# Altium schematic symbol library драйверы.SchLib: 36 symbols
Pins are listed as number, name and electrical type; pins without a type are passive.

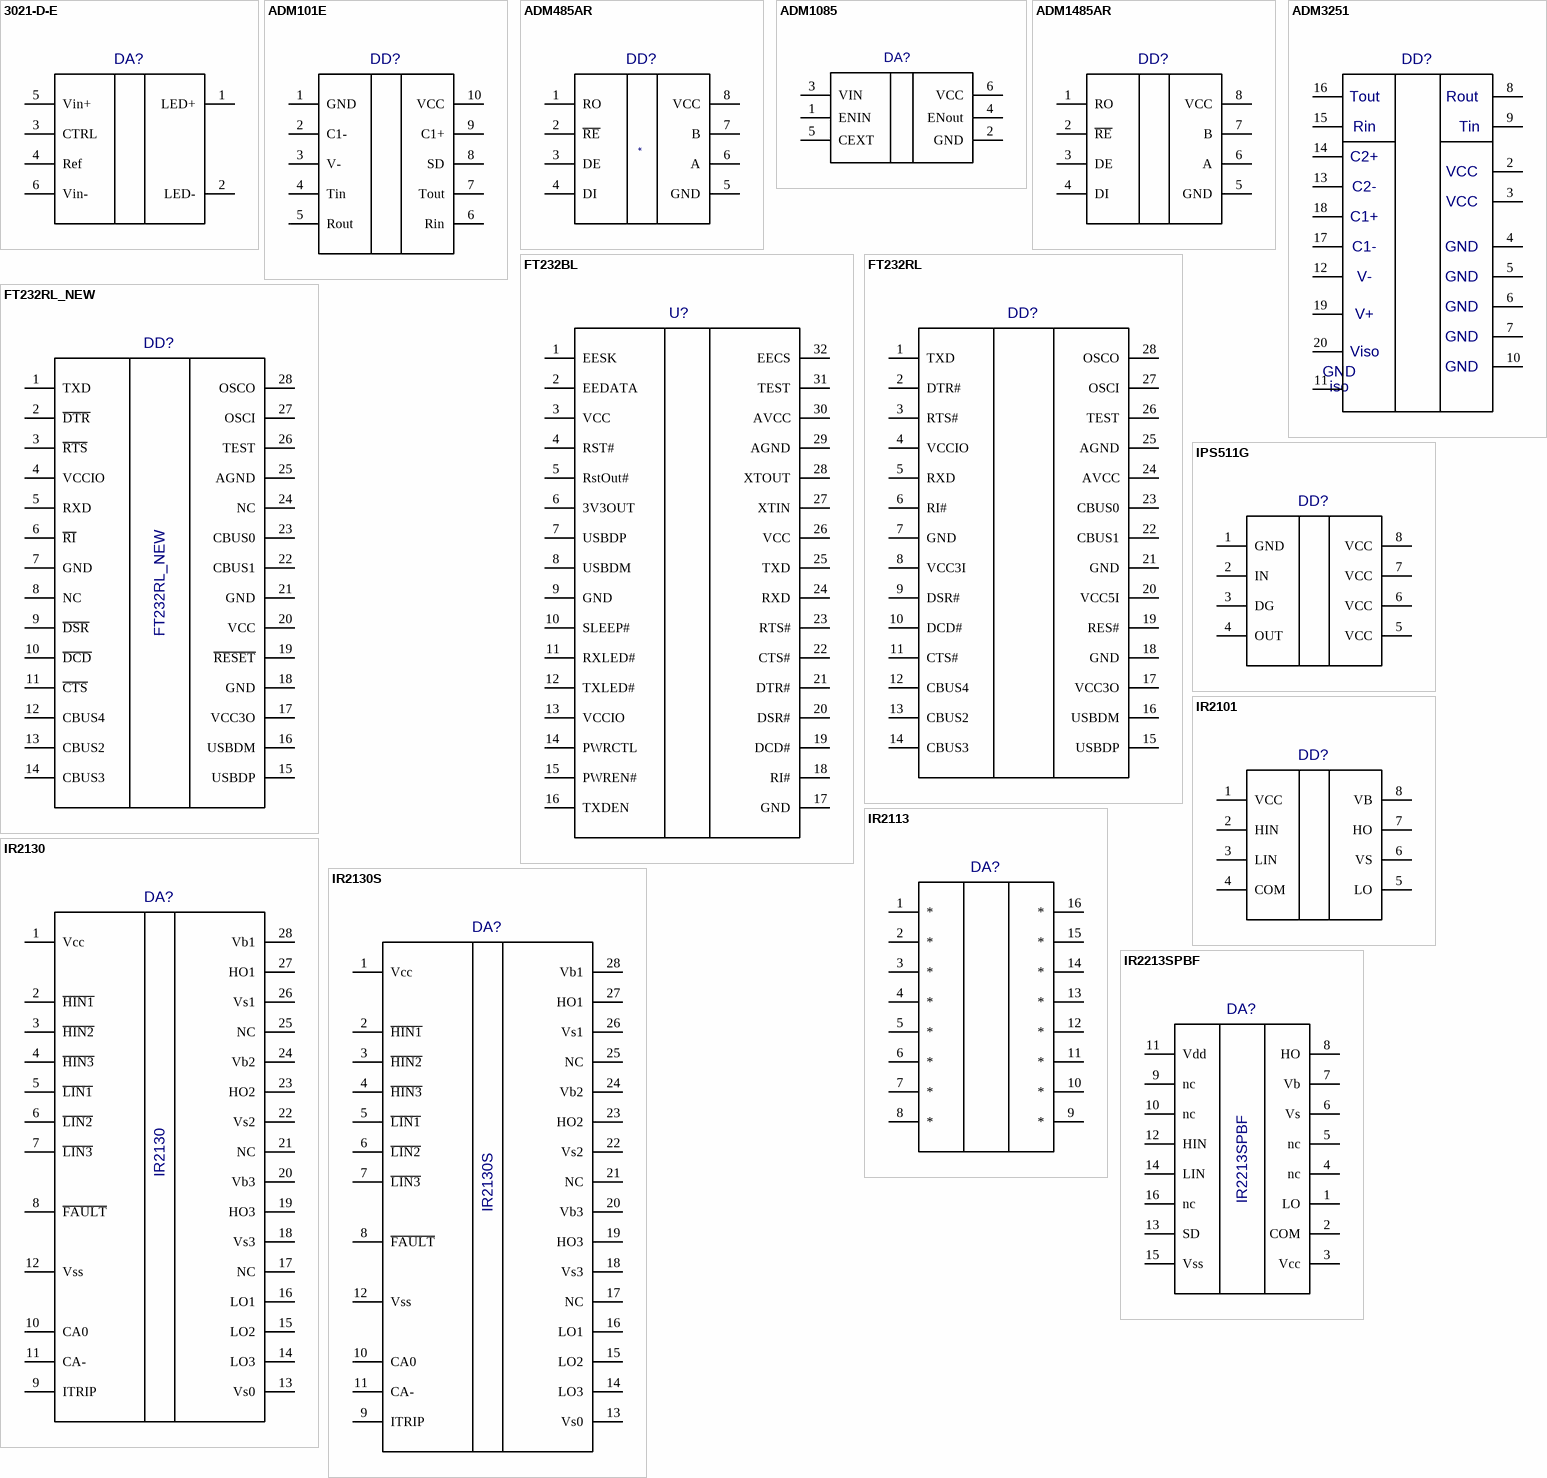
[diagram p0: symbols 3021-D-E to IR2213SPBF]

## 3021-D-E
designator DA?  (value not drawn)
Value: *
footprint 3021-D-E
pins: 1 LED+, 2 LED-, 3 CTRL, 4 Ref, 5 Vin+, 6 Vin-

## ADM101E
designator DD?  (value not drawn)
Value: *
footprint MSOP-10
pins: 1 GND, 2 C1-, 3 V-, 4 Tin, 5 Rout, 6 Rin, 7 Tout, 8 SD, 9 C1+, 10 VCC

## ADM485AR
designator DD?  (value not drawn)
Value: *
footprint SO8
pins: 1 RO, 2 ~{RE}, 3 DE, 4 DI, 5 GND, 6 A, 7 B, 8 VCC

## ADM1085
designator DA?  (value not drawn)
Value: *
footprint SOT363
pins: 1 ENIN, 2 GND, 3 VIN, 4 ENout, 5 CEXT, 6 VCC

## ADM1485AR
designator DD?  (value not drawn)
Value: *
footprint SO8
pins: 1 RO, 2 ~{RE}, 3 DE, 4 DI, 5 GND, 6 A, 7 B, 8 VCC

## ADM3251
designator DD?  (value not drawn)
Value: *
footprint SOL20
pins: 1 hidden, 2 VCC, 3 VCC, 4 GND, 5 GND, 6 GND, 7 GND, 8 Rout, 9 Tin, 10 GND, 11 GNDiso, 12 V-, 13 C2-, 14 C2+, 15 Rin, 16 Tout, 17 C1-, 18 C1+, 19 V+, 20 Viso
text: iso

## FT232BL
designator U?  (value not drawn)
Value: *
footprint LQFP32
pins: 1 EESK, 2 EEDATA, 3 VCC, 4 RST#, 5 RstOut#, 6 3V3OUT, 7 USBDP, 8 USBDM, 9 GND, 10 SLEEP#, 11 RXLED#, 12 TXLED#, 13 VCCIO, 14 PWRCTL, 15 PWREN#, 16 TXDEN, 17 GND, 18 RI#, 19 DCD#, 20 DSR#, 21 DTR#, 22 CTS#, 23 RTS#, 24 RXD, 25 TXD, 26 VCC, 27 XTIN, 28 XTOUT, 29 AGND, 30 AVCC, 31 TEST, 32 EECS

## FT232RL
designator DD?  (value not drawn)
Value: *
footprint SSOP28
pins: 1 TXD, 2 DTR#, 3 RTS#, 4 VCCIO, 5 RXD, 6 RI#, 7 GND, 8 VCC3I, 9 DSR#, 10 DCD#, 11 CTS#, 12 CBUS4, 13 CBUS2, 14 CBUS3, 15 USBDP, 16 USBDM, 17 VCC3O, 18 GND, 19 RES#, 20 VCC5I, 21 GND, 22 CBUS1, 23 CBUS0, 24 AVCC, 25 AGND, 26 TEST, 27 OSCI, 28 OSCO

## FT232RL_NEW
designator DD?
Value: {Value}
footprint SSOP28
pins: 1 TXD, 2 ~{DTR}, 3 ~{RTS}, 4 VCCIO, 5 RXD, 6 ~{RI}, 7 GND, 8 NC, 9 ~{DSR}, 10 ~{DCD}, 11 ~{CTS}, 12 CBUS4, 13 CBUS2, 14 CBUS3, 15 USBDP, 16 USBDM, 17 VCC3O, 18 GND, 19 ~{RESET}, 20 VCC, 21 GND, 22 CBUS1, 23 CBUS0, 24 NC, 25 AGND, 26 TEST, 27 OSCI, 28 OSCO

## IPS511G
designator DD?  (value not drawn)
Value: *
footprint SO8
pins: 1 GND, 2 IN, 3 DG, 4 OUT, 5 VCC, 6 VCC, 7 VCC, 8 VCC

## IR2101
designator DD?  (value not drawn)
Value: *
footprint DIP8
pins: 1 VCC, 2 HIN, 3 LIN, 4 COM, 5 LO, 6 VS, 7 HO, 8 VB

## IR2113
designator DA?  (value not drawn)
Value: *
footprint SOL16
pins: 1 *, 2 *, 3 *, 4 *, 5 *, 6 *, 7 *, 8 *, 9 *, 10 *, 11 *, 12 *, 13 *, 14 *, 15 *, 16 *

## IR2130
designator DA?
Value: {Value}
footprint DIP28
pins: 1 Vcc, 2 ~{HIN1}, 3 ~{HIN2}, 4 ~{HIN3}, 5 ~{LIN1}, 6 ~{LIN2}, 7 ~{LIN3}, 8 ~{FAULT}, 9 ITRIP, 10 CA0, 11 CA-, 12 Vss, 13 Vs0, 14 LO3, 15 LO2, 16 LO1, 17 NC, 18 Vs3, 19 HO3, 20 Vb3, 21 NC, 22 Vs2, 23 HO2, 24 Vb2, 25 NC, 26 Vs1, 27 HO1, 28 Vb1

## IR2130S
designator DA?
Value: *
footprint SOL28
pins: 1 Vcc, 2 ~{HIN1}, 3 ~{HIN2}, 4 ~{HIN3}, 5 ~{LIN1}, 6 ~{LIN2}, 7 ~{LIN3}, 8 ~{FAULT}, 9 ITRIP, 10 CA0, 11 CA-, 12 Vss, 13 Vs0, 14 LO3, 15 LO2, 16 LO1, 17 NC, 18 Vs3, 19 HO3, 20 Vb3, 21 NC, 22 Vs2, 23 HO2, 24 Vb2, 25 NC, 26 Vs1, 27 HO1, 28 Vb1

## IR2213SPBF
designator DA?
Value: *
footprint SOL16
pins: 1 LO, 2 COM, 3 Vcc, 4 nc, 5 nc, 6 Vs, 7 Vb, 8 HO, 9 nc, 10 nc, 11 Vdd, 12 HIN, 13 SD, 14 LIN, 15 Vss, 16 nc

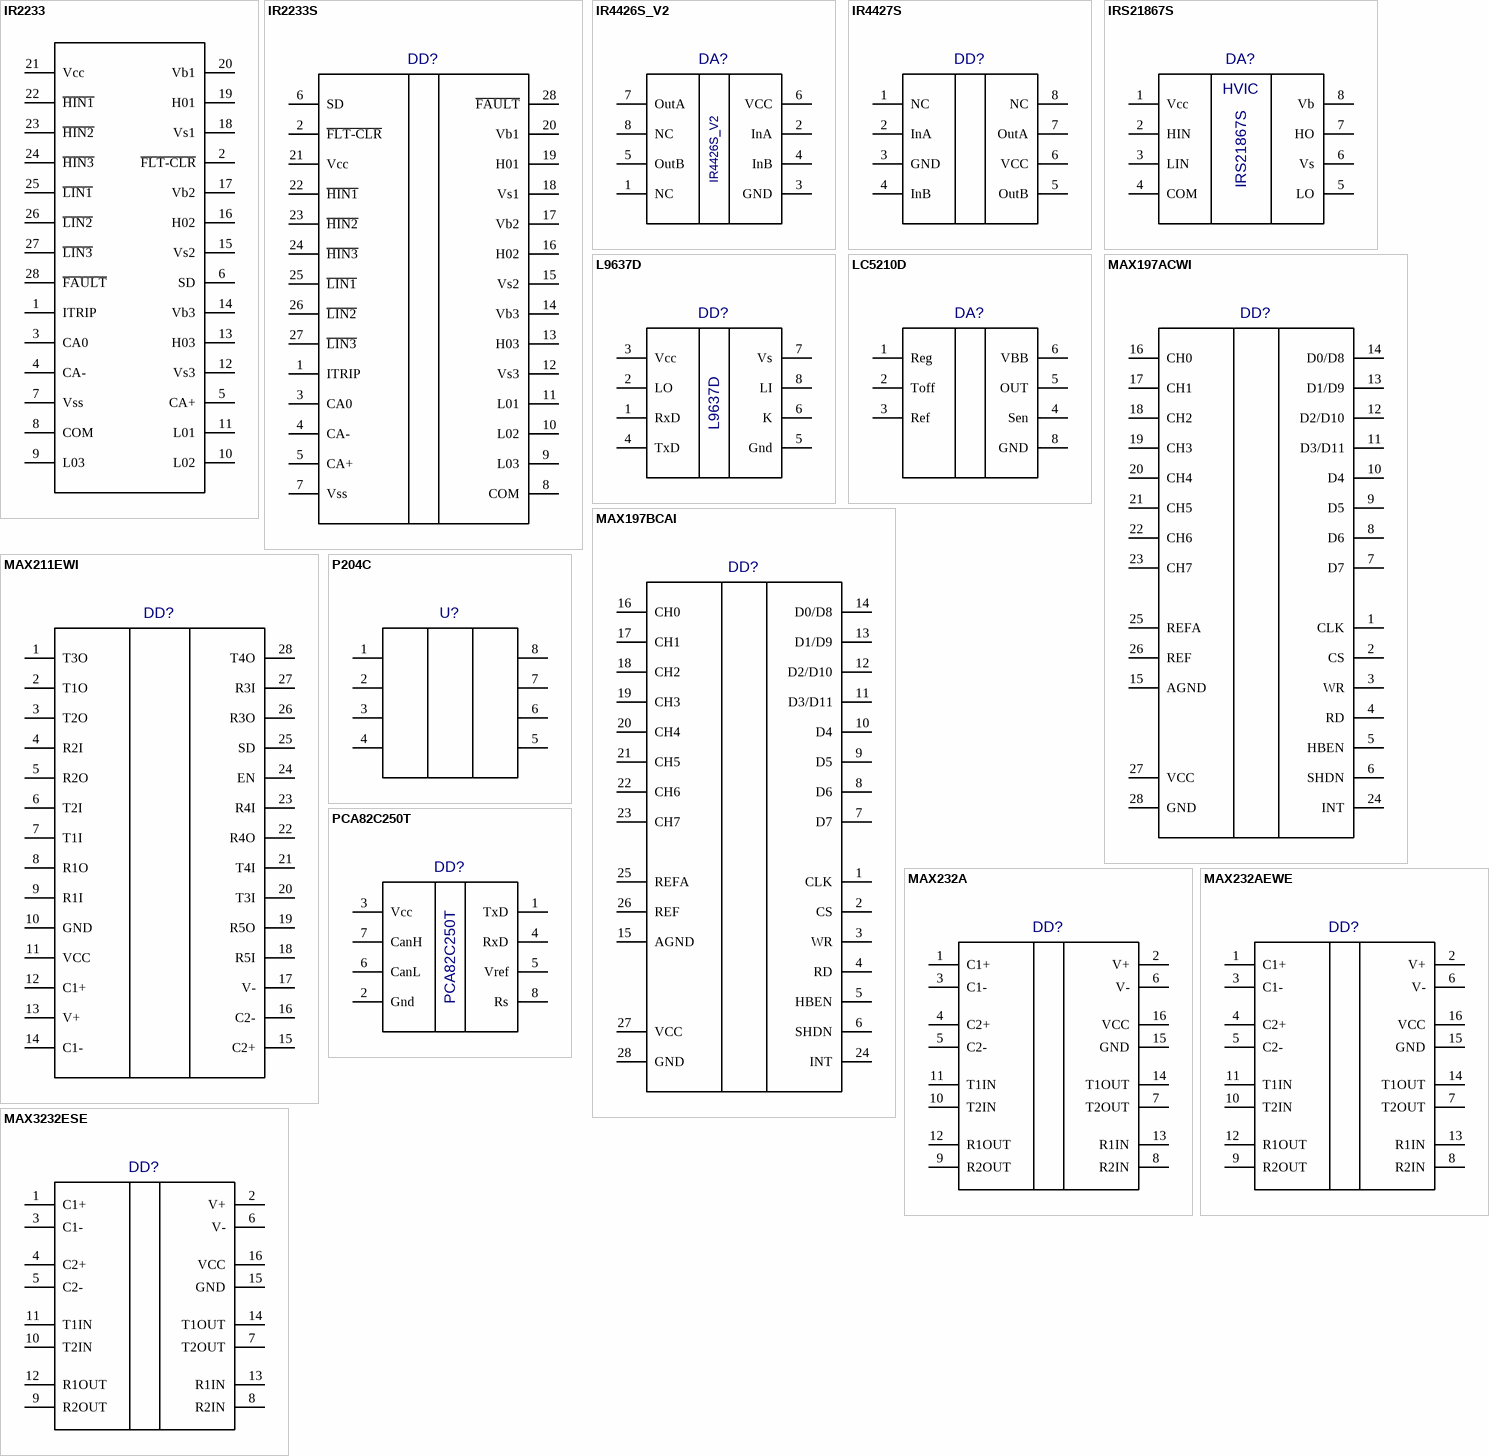
[diagram p1: symbols IR2233 to PCA82C250T]

## IR2233
designator DD?  (value not drawn)
Value: *
footprint SOL28
pins: 1 ITRIP, 2 ~{FLT-CLR}, 3 CA0, 4 CA-, 5 CA+, 6 SD, 7 Vss, 8 COM, 9 L03, 10 L02, 11 L01, 12 Vs3, 13 H03, 14 Vb3, 15 Vs2, 16 H02, 17 Vb2, 18 Vs1, 19 H01, 20 Vb1, 21 Vcc, 22 ~{HIN1}, 23 ~{HIN2}, 24 ~{HIN3}, 25 ~{LIN1}, 26 ~{LIN2}, 27 ~{LIN3}, 28 ~{FAULT}

## IR2233S
designator DD?  (value not drawn)
Value: *
footprint SOL28
pins: 1 ITRIP, 2 ~{FLT-CLR}, 3 CA0, 4 CA-, 5 CA+, 6 SD, 7 Vss, 8 COM, 9 L03, 10 L02, 11 L01, 12 Vs3, 13 H03, 14 Vb3, 15 Vs2, 16 H02, 17 Vb2, 18 Vs1, 19 H01, 20 Vb1, 21 Vcc, 22 ~{HIN1}, 23 ~{HIN2}, 24 ~{HIN3}, 25 ~{LIN1}, 26 ~{LIN2}, 27 ~{LIN3}, 28 ~{FAULT}

## IR4426S_V2
designator DA?
Value: {Value}
footprint SO8
pins: 1 NC, 2 InA, 3 GND, 4 InB, 5 OutB, 6 VCC, 7 OutA, 8 NC

## IR4427S
designator DD?  (value not drawn)
Value: *
footprint SO8
pins: 1 NC, 2 InA, 3 GND, 4 InB, 5 OutB, 6 VCC, 7 OutA, 8 NC

## IRS21867S
designator DA?
Value: {Value}
footprint SO8
pins: 1 Vcc, 2 HIN, 3 LIN, 4 COM, 5 LO, 6 Vs, 7 HO, 8 Vb
text: HVIC

## L9637D
designator DD?
Value: *
footprint SO8
pins: 1 RxD, 2 LO, 3 Vcc, 4 TxD, 5 Gnd, 6 K, 7 Vs, 8 LI

## LC5210D
designator DA?  (value not drawn)
Value: *
footprint LC5210D
pins: 1 Reg, 2 Toff, 3 Ref, 4 Sen, 5 OUT, 6 VBB, 8 GND

## MAX197ACWI
designator DD?  (value not drawn)
Value: *
footprint SOL28
pins: 1 CLK, 2 CS, 3 WR, 4 RD, 5 HBEN, 6 SHDN, 7 D7, 8 D6, 9 D5, 10 D4, 11 D3/D11, 12 D2/D10, 13 D1/D9, 14 D0/D8, 15 AGND, 16 CH0, 17 CH1, 18 CH2, 19 CH3, 20 CH4, 21 CH5, 22 CH6, 23 CH7, 24 INT, 25 REFA, 26 REF, 27 VCC, 28 GND

## MAX197BCAI
designator DD?  (value not drawn)
Value: *
footprint SSOP28
pins: 1 CLK, 2 CS, 3 WR, 4 RD, 5 HBEN, 6 SHDN, 7 D7, 8 D6, 9 D5, 10 D4, 11 D3/D11, 12 D2/D10, 13 D1/D9, 14 D0/D8, 15 AGND, 16 CH0, 17 CH1, 18 CH2, 19 CH3, 20 CH4, 21 CH5, 22 CH6, 23 CH7, 24 INT, 25 REFA, 26 REF, 27 VCC, 28 GND

## MAX211EWI
designator DD?  (value not drawn)
Value: *
footprint SOL28
pins: 1 T3O, 2 T1O, 3 T2O, 4 R2I, 5 R2O, 6 T2I, 7 T1I, 8 R1O, 9 R1I, 10 GND, 11 VCC, 12 C1+, 13 V+, 14 C1-, 15 C2+, 16 C2-, 17 V-, 18 R5I, 19 R5O, 20 T3I, 21 T4I, 22 R4O, 23 R4I, 24 EN, 25 SD, 26 R3O, 27 R3I, 28 T4O

## MAX232A
designator DD?  (value not drawn)
Value: *
footprint SO16
pins: 1 C1+, 2 V+, 3 C1-, 4 C2+, 5 C2-, 6 V-, 7 T2OUT, 8 R2IN, 9 R2OUT, 10 T2IN, 11 T1IN, 12 R1OUT, 13 R1IN, 14 T1OUT, 15 GND, 16 VCC

## MAX232AEWE
designator DD?  (value not drawn)
Value: *
footprint SOL16
pins: 1 C1+, 2 V+, 3 C1-, 4 C2+, 5 C2-, 6 V-, 7 T2OUT, 8 R2IN, 9 R2OUT, 10 T2IN, 11 T1IN, 12 R1OUT, 13 R1IN, 14 T1OUT, 15 GND, 16 VCC

## MAX3232ESE
designator DD?  (value not drawn)
Value: *
footprint SO16
pins: 1 C1+, 2 V+, 3 C1-, 4 C2+, 5 C2-, 6 V-, 7 T2OUT, 8 R2IN, 9 R2OUT, 10 T2IN, 11 T1IN, 12 R1OUT, 13 R1IN, 14 T1OUT, 15 GND, 16 VCC

## P204C
designator U?  (value not drawn)
Value: *
pins: 1, 2, 3, 4, 5, 6, 7, 8

## PCA82C250T
designator DD?
Value: {Value}
footprint SO8
pins: 1 TxD, 2 Gnd, 3 Vcc, 4 RxD, 5 Vref, 6 CanL, 7 CanH, 8 Rs

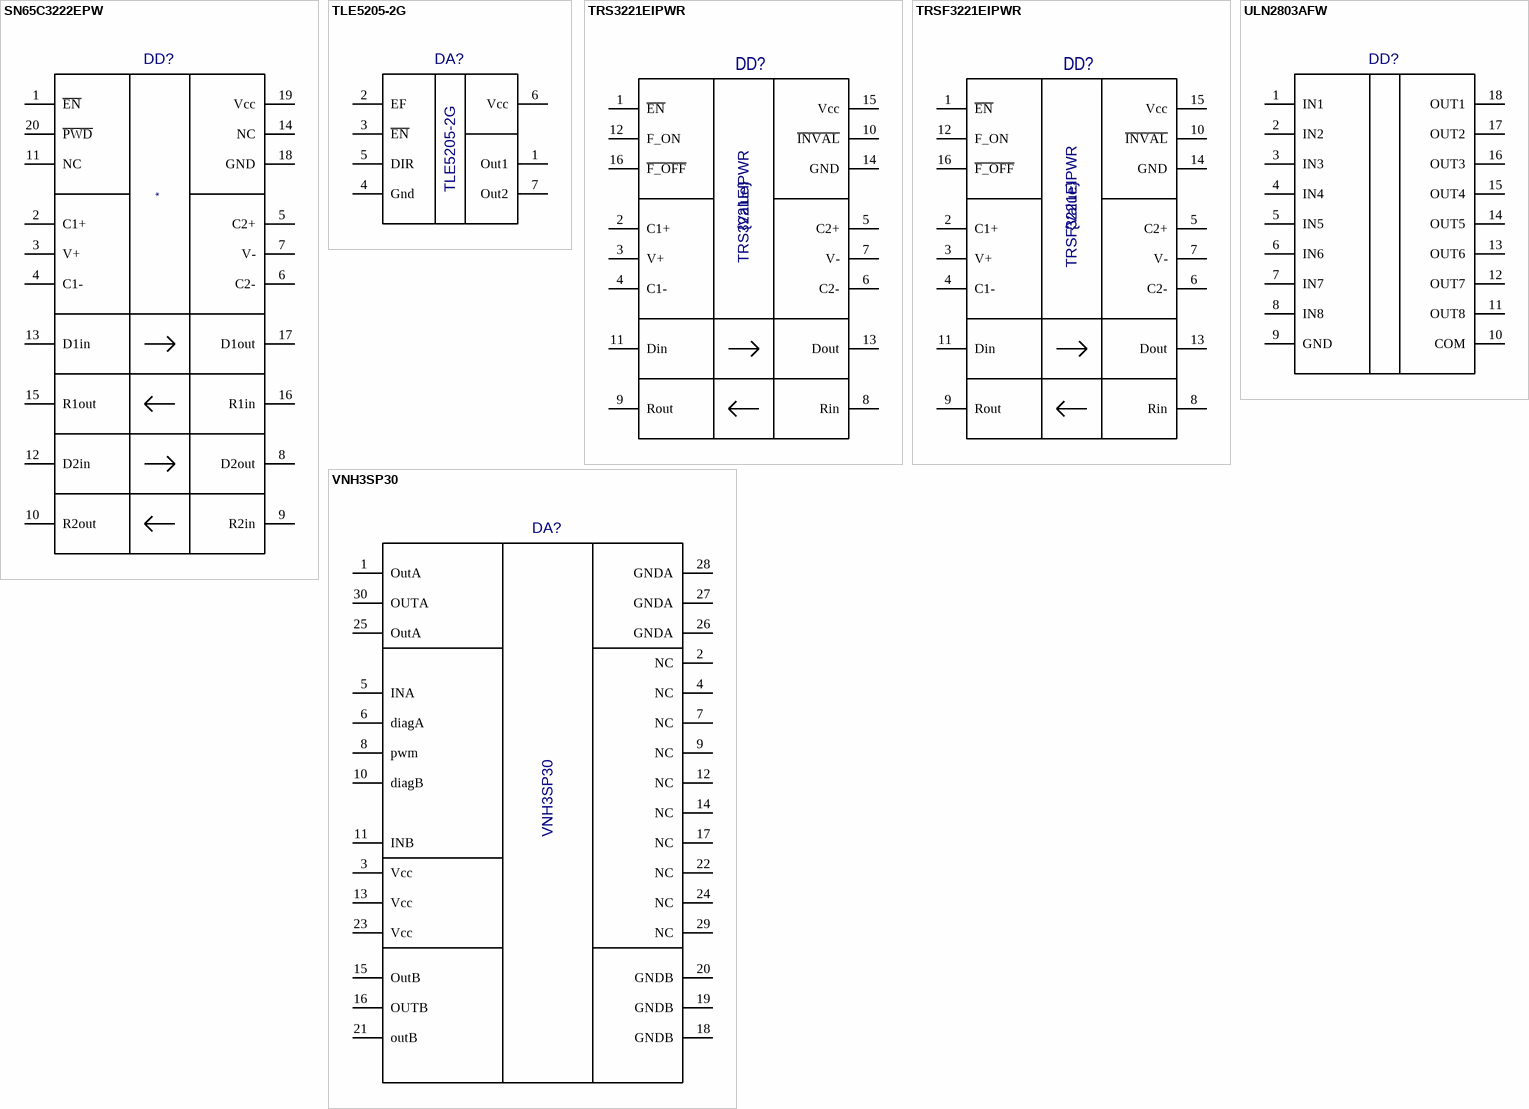
[diagram p2: symbols SN65C3222EPW to VNH3SP30]

## SN65C3222EPW
designator DD?  (value not drawn)
Value: *
footprint TSSOP20
pins: 1 ~{EN}, 2 C1+, 3 V+, 4 C1-, 5 C2+, 6 C2-, 7 V-, 8 D2out, 9 R2in, 10 R2out, 11 NC, 12 D2in, 13 D1in, 14 NC, 15 R1out, 16 R1in, 17 D1out, 18 GND, 19 Vcc, 20 ~{PWD}

## TLE5205-2G
designator DA?
Value: *
pins: 1 Out1, 2 EF, 3 ~{EN}, 4 Gnd, 5 DIR, 6 Vcc, 7 Out2

## TRS3221EIPWR
designator DD?  value {Value}
footprint TSSOP16
pins: 1 ~{EN}, 2 C1+, 3 V+, 4 C1-, 5 C2+, 6 C2-, 7 V-, 8 Rin, 9 Rout, 10 ~{INVAL}, 11 Din, 12 F_ON, 13 Dout, 14 GND, 15 Vcc, 16 ~{F_OFF}

## TRSF3221EIPWR
designator DD?  value {Value}
footprint TSSOP16
pins: 1 ~{EN}, 2 C1+, 3 V+, 4 C1-, 5 C2+, 6 C2-, 7 V-, 8 Rin, 9 Rout, 10 ~{INVAL}, 11 Din, 12 F_ON, 13 Dout, 14 GND, 15 Vcc, 16 ~{F_OFF}

## ULN2803AFW
designator DD?  (value not drawn)
Value: *
footprint SOL18
pins: 1 IN1, 2 IN2, 3 IN3, 4 IN4, 5 IN5, 6 IN6, 7 IN7, 8 IN8, 9 GND, 10 COM, 11 OUT8, 12 OUT7, 13 OUT6, 14 OUT5, 15 OUT4, 16 OUT3, 17 OUT2, 18 OUT1

## VNH3SP30
designator DA?
Value: *
footprint SO30_VNH3SP30
pins: 1 OutA, 2 NC, 3 Vcc, 4 NC, 5 INA, 6 diagA, 7 NC, 8 pwm, 9 NC, 10 diagB, 11 INB, 12 NC, 13 Vcc, 14 NC, 15 OutB, 16 OUTB, 17 NC, 18 GNDB, 19 GNDB, 20 GNDB, 21 outB, 22 NC, 23 Vcc, 24 NC, 25 OutA, 26 GNDA, 27 GNDA, 28 GNDA, 29 NC, 30 OUTA